# EAGLE library part ICSP (library Modulo)
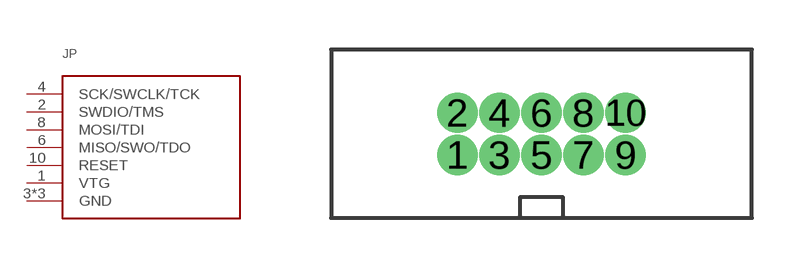
[diagram p16: symbol with the pads of 2X5-.05; footprint 2X5-.05]

Designator prefix JP

## ICSP  [2X5-.05]
1  VTG
2  SWDIO/TMS
3  GND
4  SCK/SWCLK/TCK
5  GND
6  MISO/SWO/TDO
8  MOSI/TDI
9  GND
10  RESET

## Footprint 2X5-.05 (pad centres in mm)
drill 0.711 pad 1.016: 1 -2.54,-1.27; 2 -2.54,0; 3 -1.27,-1.27; 4 -1.27,0; 5 0,-1.27; 6 0,0; 7 1.27,-1.27; 8 1.27,0; 9 2.54,-1.27; 10 2.54,0